# EAGLE library part SI4362 (library radio-tracker)
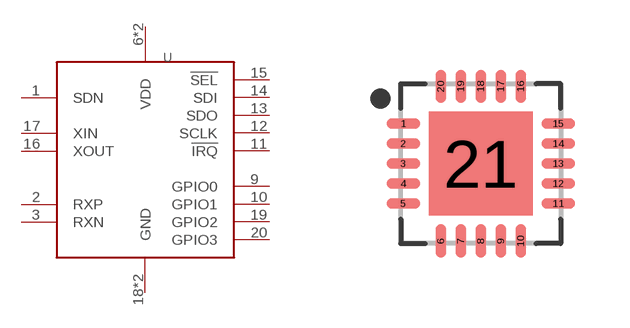
[diagram p5: symbol with the pads of SI4362; footprint SI4362]

Designator prefix U

## SI4362  [SI4362]
1  SDN  in
2  RXP  pas
3  RXN  pas
6  VDD  pwr
8  VDD  pwr
9  GPIO0
10  GPIO1
11  !IRQ  out
12  SCLK  in
13  SDO  out
14  SDI  in
15  !SEL  in
16  XOUT  out
17  XIN  in
18  GND  pas
19  GPIO2
20  GPIO3
21  GND  pas

## Footprint SI4362 (pad centres in mm)
20-QFN, 0.50 mm pitch, 4.00 X 4.00 X 0.90 mm body, 2.60 X 2.60 mm thermal pad 20-pin QFN package with 0.50 mm pitch with body size 4.00 X 4.00 X 0.90 mm and thermal pad size 2.60 X 2.60 mm
smd 0.837 x 0.264: 1 -1.937,1; 2 -1.937,0.5; 3 -1.937,0; 4 -1.937,-0.5; 5 -1.937,-1; 11 1.937,-1; 12 1.937,-0.5; 13 1.937,0; 14 1.937,0.5; 15 1.937,1
smd 0.264 x 0.837: 6 -1,-1.937; 7 -0.5,-1.937; 8 0,-1.937; 9 0.5,-1.937; 10 1,-1.937; 16 1,1.937; 17 0.5,1.937; 18 0,1.937; 19 -0.5,1.937; 20 -1,1.937
smd 2.6 x 2.6: 21 0,0